# Altium schematic symbol library SCH - INTERFACE - RS422 RS485 - AM26LV31EIDR.SCHLIB: 1 symbol
Pins are listed as number, name and electrical type; pins without a type are passive.

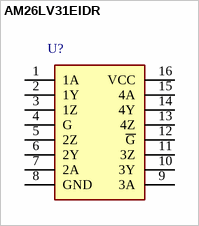
[diagram p0: symbol AM26LV31EIDR]

## AM26LV31EIDR
designator U?
pins: 1 1A, 2 1Y, 3 1Z, 4 G, 5 2Z, 6 2Y, 7 2A, 8 GND, 9 3A, 10 3Y, 11 3Z, 12 ~{G}, 13 4Z, 14 4Y, 15 4A, 16 VCC